# EAGLE library part WMOI3_TH (library WMOi3)
Wavecom WMOi3 GSM Modem connected with ribbon cable to Harwin M50-3602542 1.27mm Pitch DIL Through Hole Pin Header.
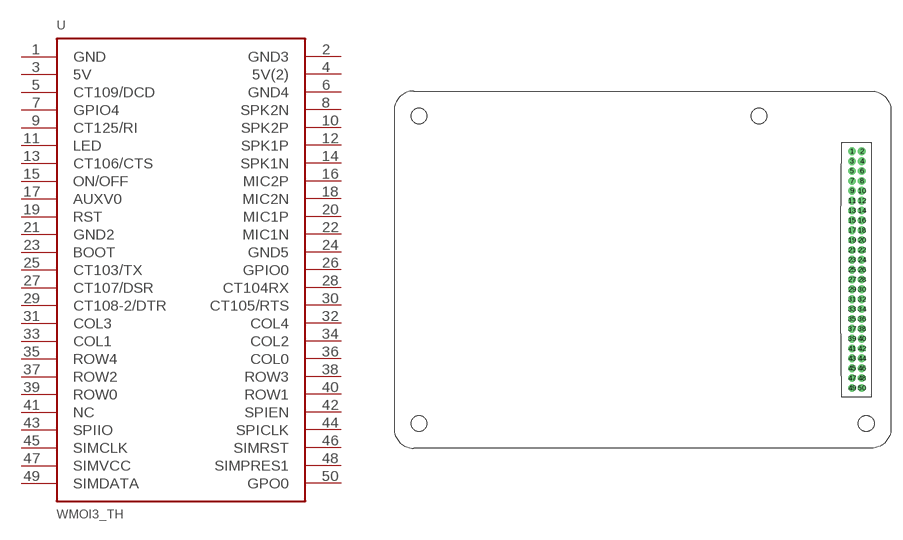
[diagram p1: symbol with the pads of WMOI3_TH; footprint WMOI3_TH]

Designator prefix -

## WMOI3_TH  [WMOI3_TH]
1  GND
2  GND3
3  5V
4  5V(2)
5  CT109/DCD
6  GND4
7  GPIO4
8  SPK2N
9  CT125/RI
10  SPK2P
11  LED
12  SPK1P
13  CT106/CTS
14  SPK1N
15  ON/OFF
16  MIC2P
17  AUXV0
18  MIC2N
19  RST
20  MIC1P
21  GND2
22  MIC1N
23  BOOT
24  GND5
25  CT103/TX
26  GPIO0
27  CT107/DSR
28  CT104RX
29  CT108-2/DTR
30  CT105/RTS
31  COL3
32  COL4
33  COL1
34  COL2
35  ROW4
36  COL0
37  ROW2
38  ROW3
39  ROW0
40  ROW1
41  NC
42  SPIEN
43  SPIIO
44  SPICLK
45  SIMCLK
46  SIMRST
47  SIMVCC
48  SIMPRES1
49  SIMDATA
50  GPO0

## Footprint WMOI3_TH (pad centres in mm)
drill 0.5: 1 28.11,15.73; 2 29.38,15.73; 3 28.11,14.46; 4 29.38,14.46; 5 28.11,13.19; 6 29.38,13.19; 7 28.11,11.92; 8 29.38,11.92; 9 28.11,10.65; 10 29.38,10.65; 11 28.11,9.38; 12 29.38,9.38; 13 28.11,8.11; 14 29.38,8.11; 15 28.11,6.84; 16 29.38,6.84; 17 28.11,5.57; 18 29.38,5.57; 19 28.11,4.3; 20 29.38,4.3; 21 28.11,3.03; 22 29.38,3.03; 23 28.11,1.76; 24 29.38,1.76; 25 28.11,0.49; 26 29.38,0.49; 27 28.11,-0.78; 28 29.38,-0.78; 29 28.11,-2.05; 30 29.38,-2.05; 31 28.11,-3.32; 32 29.38,-3.32; 33 28.11,-4.59; 34 29.38,-4.59; 35 28.11,-5.86; 36 29.38,-5.86; 37 28.11,-7.13; 38 29.38,-7.13; 39 28.11,-8.4; 40 29.38,-8.4; 41 28.11,-9.67; 42 29.38,-9.67; 43 28.11,-10.94; 44 29.38,-10.94; 45 28.11,-12.21; 46 29.38,-12.21; 47 28.11,-13.48; 48 29.38,-13.48; 49 28.11,-14.75; 50 29.38,-14.75
hole 2 at 29.94,-19.33
hole 2 at -27.71,-19.33
hole 2 at -27.71,20.31
hole 2 at 16.12,20.31